# Altium footprint library HV9006_MEASUREBOARD.PCBLIB: 292 footprints (part 2 of 19)
Each footprint in its own frame and in the unit in brackets; x right, y up, seen from the top. Pads: shape width x height; smd on the part's side, far side on the other; paste and mask are expansions set on the pad; w line width, h text height; cw(c..) or ccw(c..) is an arc to the next point about the centre after c.
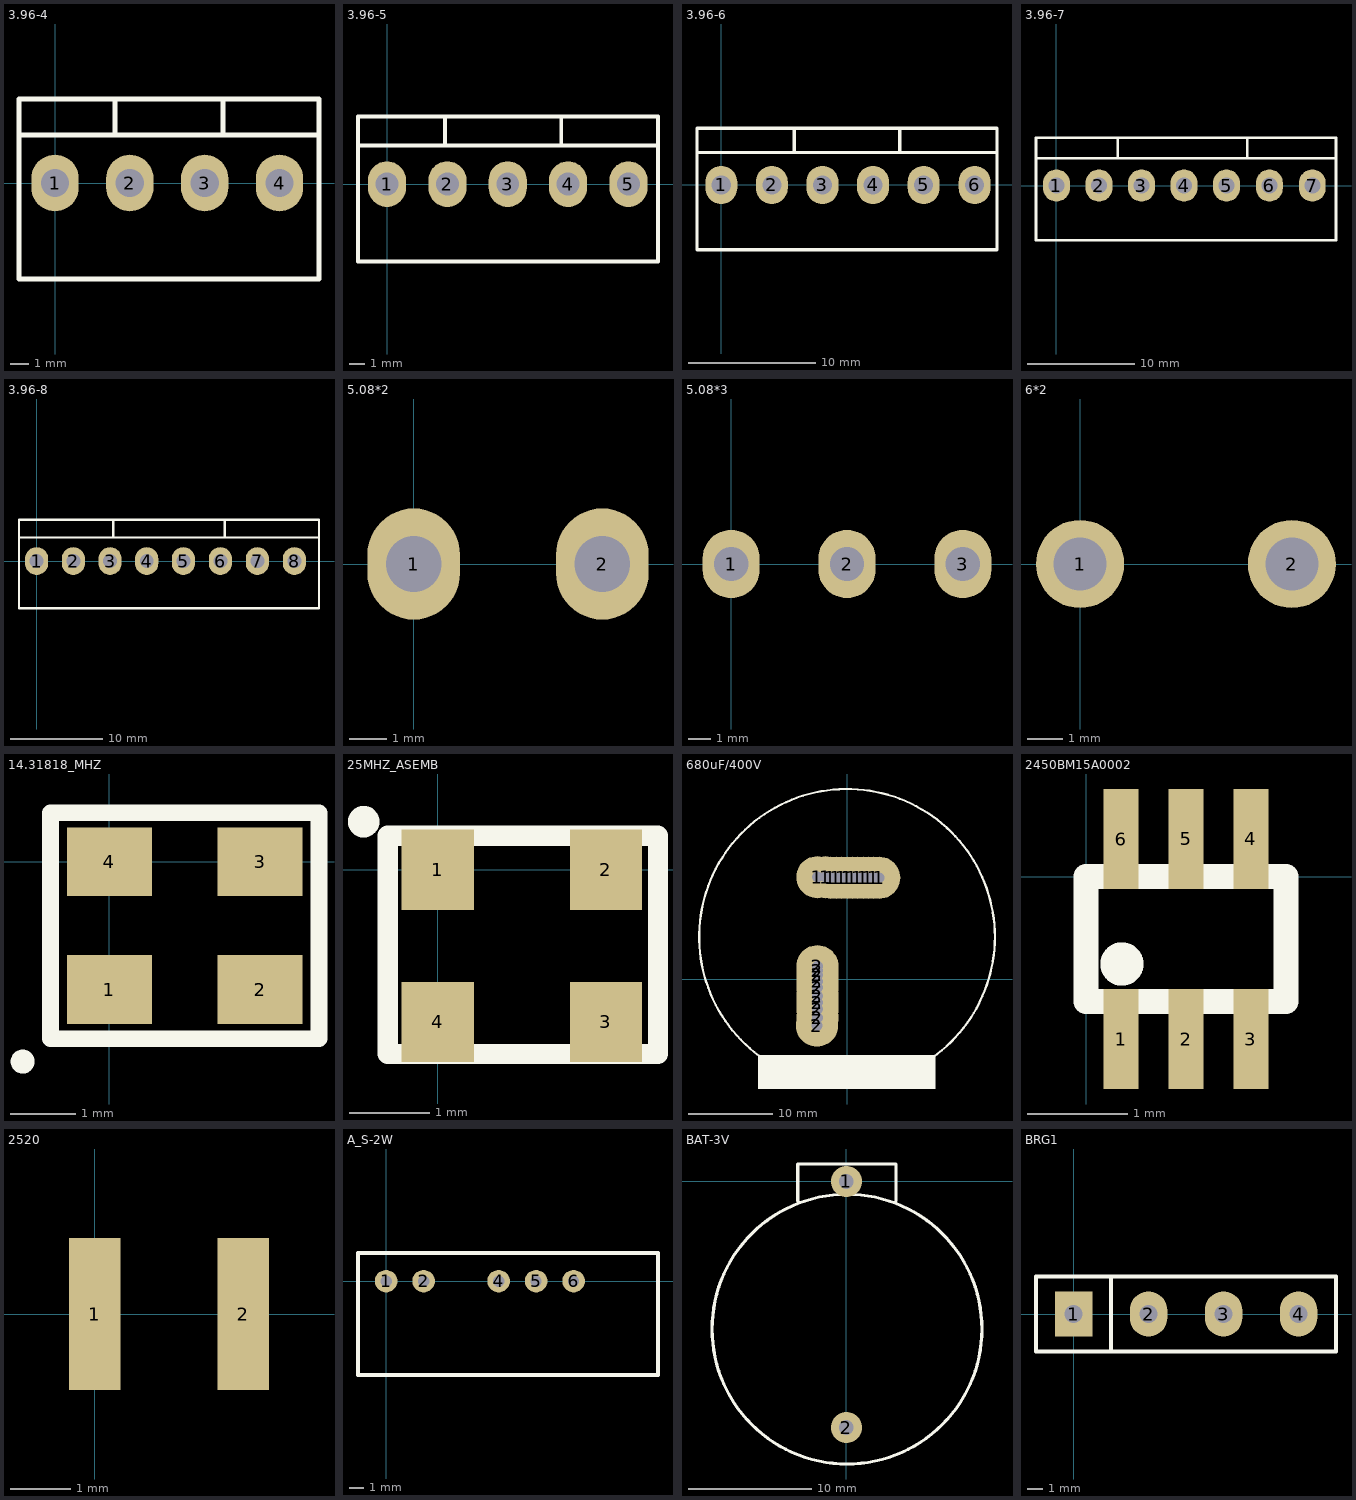
[diagram p1: the footprints below, top view; thin cyan lines are the x and y axes]

## 3.96-4 [mm]
pads (4):
  oval 2.5x3 hole 1.5: 1(0,0) 2(3.96,0) 3(7.92,0) 4(11.88,0)
Top Overlay:
  lines w0.254: -1.905,2.54 13.97,2.54 ; 3.175,2.54 3.175,4.445 ; 8.89,2.54 8.89,4.445 ; -1.905,-5.08 13.97,-5.08 13.97,2.413 13.97,4.445 -1.905,4.445 -1.905,2.413 -1.905,-5.08

## 3.96-5 [mm]
pads (5):
  oval 2.5x3 hole 1.5: 1(0,0) 2(3.96,0) 3(7.92,0) 4(11.88,0) 5(15.84,0)
Top Overlay:
  lines w0.254: -1.905,2.54 17.78,2.54 ; 3.81,2.54 3.81,4.445 ; 11.43,2.54 11.43,4.445 ; -1.905,-5.08 17.78,-5.08 17.78,2.413 17.78,4.445 -1.905,4.445 -1.905,2.413 -1.905,-5.08

## 3.96-6 [mm]
pads (6):
  oval 2.5x3 hole 1.5: 1(0,0) 2(3.96,0) 3(7.92,0) 4(11.88,0) 5(15.84,0) 6(19.835,0)
Top Overlay:
  lines w0.254: -1.905,2.54 21.59,2.54 ; 5.715,2.54 5.715,4.445 ; 13.97,2.54 13.97,4.445 ; -1.905,-5.08 -1.905,2.413 -1.905,4.445 21.59,4.445 21.59,2.413 21.59,-5.08 -1.905,-5.08

## 3.96-7 [mm]
pads (7):
  oval 2.5x3 hole 1.5: 1(0,0) 2(3.96,0) 3(7.92,0) 4(11.88,0) 5(15.84,0) 6(19.835,0) 7(23.83,0)
Top Overlay:
  lines w0.254: -1.905,2.54 26.035,2.54 ; 5.715,2.54 5.715,4.445 ; 17.78,2.54 17.78,4.445 ; -1.905,-5.08 26.035,-5.08 26.035,2.413 26.035,4.445 -1.905,4.445 -1.905,2.413 -1.905,-5.08

## 3.96-8 [mm]
pads (8):
  oval 2.5x3 hole 1.5: 1(0,0) 2(3.96,0) 3(7.92,0) 4(11.88,0) 5(15.84,0) 6(19.835,0) 7(23.83,0) 8(27.825,0)
Top Overlay:
  lines w0.254: -1.905,2.54 30.48,2.54 ; 8.255,2.54 8.255,4.445 ; 20.32,2.54 20.32,4.445 ; -1.905,-5.08 -1.905,2.413 -1.905,4.445 30.48,4.445 30.48,-5.08 -1.905,-5.08

## 5.08*2 [mm]
pads (2):
  oval 2.5x3 hole 1.5: 1(0,0) 2(5.08,0)

## 5.08*3 [mm]
pads (3):
  oval 2.5x3 hole 1.5: 1(0,0) 2(5.08,0) 3(10.16,0)

## 6*2 [mm]
pads (2):
  round 2.5 hole 1.5: 1(0,0) 2(6,0)

## 14.31818_MHZ [mm]
pads (4):
  rect 1.3x1.05 smd: 1(0,-1.95) 2(2.3,-1.95) 3(2.3,0) 4(0,0)
Top Overlay:
  circle w0.254: c-1.325,-3.05 r0.056
  lines w0.254: -0.9,-2.7 -0.9,0.75 3.2,0.75 3.2,-2.7 -0.9,-2.7
3D body: height 0.7, standoff 0, extent -0.4,-2.1 2.7,0.1

## 25MHZ_ASEMB [mm]
pads (4):
  rect 0.9x1 smd: 1(0,0) 2(2.1,0) 3(2.1,-1.9) 4(0,-1.9)
Top Overlay:
  circle w0.254: c-0.925,0.6 r0.071
  lines w0.254: -0.625,-2.3 -0.625,0.425 2.75,0.425 2.75,-2.3 -0.625,-2.3
3D body "ASEMB.STEP": height 0.86, standoff 0.01, extent -0.5,-2.25 2.7,0.25

## 680uF/400V [mm]
pads (23):
  round 5 hole 1.3: 1(-3.5,12.065) 1(-2.54,12.065) 1(-1.905,12) 1(-1.27,12) 1(-0.635,12) 1(0,12) 1(0,12) 1(0.635,12) 1(1.27,12) 1(1.905,12) 1(2.54,12) 1(3.175,12) 1(3.81,12) 2(-3.556,-5.5) 2(-3.5,-4.572) 2(-3.5,-3.556) 2(-3.5,-2.794) 2(-3.5,-2) 2(-3.5,-1.016) 2(-3.5,-0.254) 2(-3.5,0.508) 2(-3.5,1.016) 2(-3.5,1.524)
Top Overlay:
  circle w0.254: c0,5.004 r17.501
  rectangle: -10.516,-13.005 10.49,-8.992

## 2450BM15A0002 [mm]
pads (6):
  rect 0.35x1 smd: 1(0.35,-1.625) 2(1,-1.625) 3(1.65,-1.625) 4(1.65,0.375) 5(1,0.375) 6(0.35,0.375)
Top Overlay:
  circle w0.254: c0.36,-0.875 r0.09
  lines w0.254: 0,-1.25 0,0 2,0 2,-1.25 0,-1.25

## 2520 [mm]
pads (2):
  rect 0.85x2.5 smd: 1(0,0) 2(2.45,0)

## A_S-2W [mil]
pads (5):
  round 60 hole 30: 1(0,0) 2(100,0) 4(300,0) 5(400,0) 6(500,0)
Top Overlay:
  lines w10: -75,-250 -75,75 725,75 725,-250 -75,-250

## BAT-3V [mil]
pads (2):
  round 100 hole 47: 1(0,0) 2(0,-790)
Top Overlay:
  circle w10: c2,-474 r433
  lines w10: -156,-62 -156,56 159,56 159,-62

## BRG1 [mm]
pads (4):
  rect 2.5x3 hole 1.2: 1(0,0)
  oval 2.5x3 hole 1.2: 2(5,0) 3(10,0) 4(15,0)
Top Overlay:
  lines w0.254: 2.5,-2.5 2.5,2.5 ; -2.5,-2.5 -2.5,2.5 17.5,2.5 17.5,-2.5 -2.5,-2.5